# Altium integrated library National Semiconductor Switch Caps.IntLib: 108 symbols (part 3 of 3)
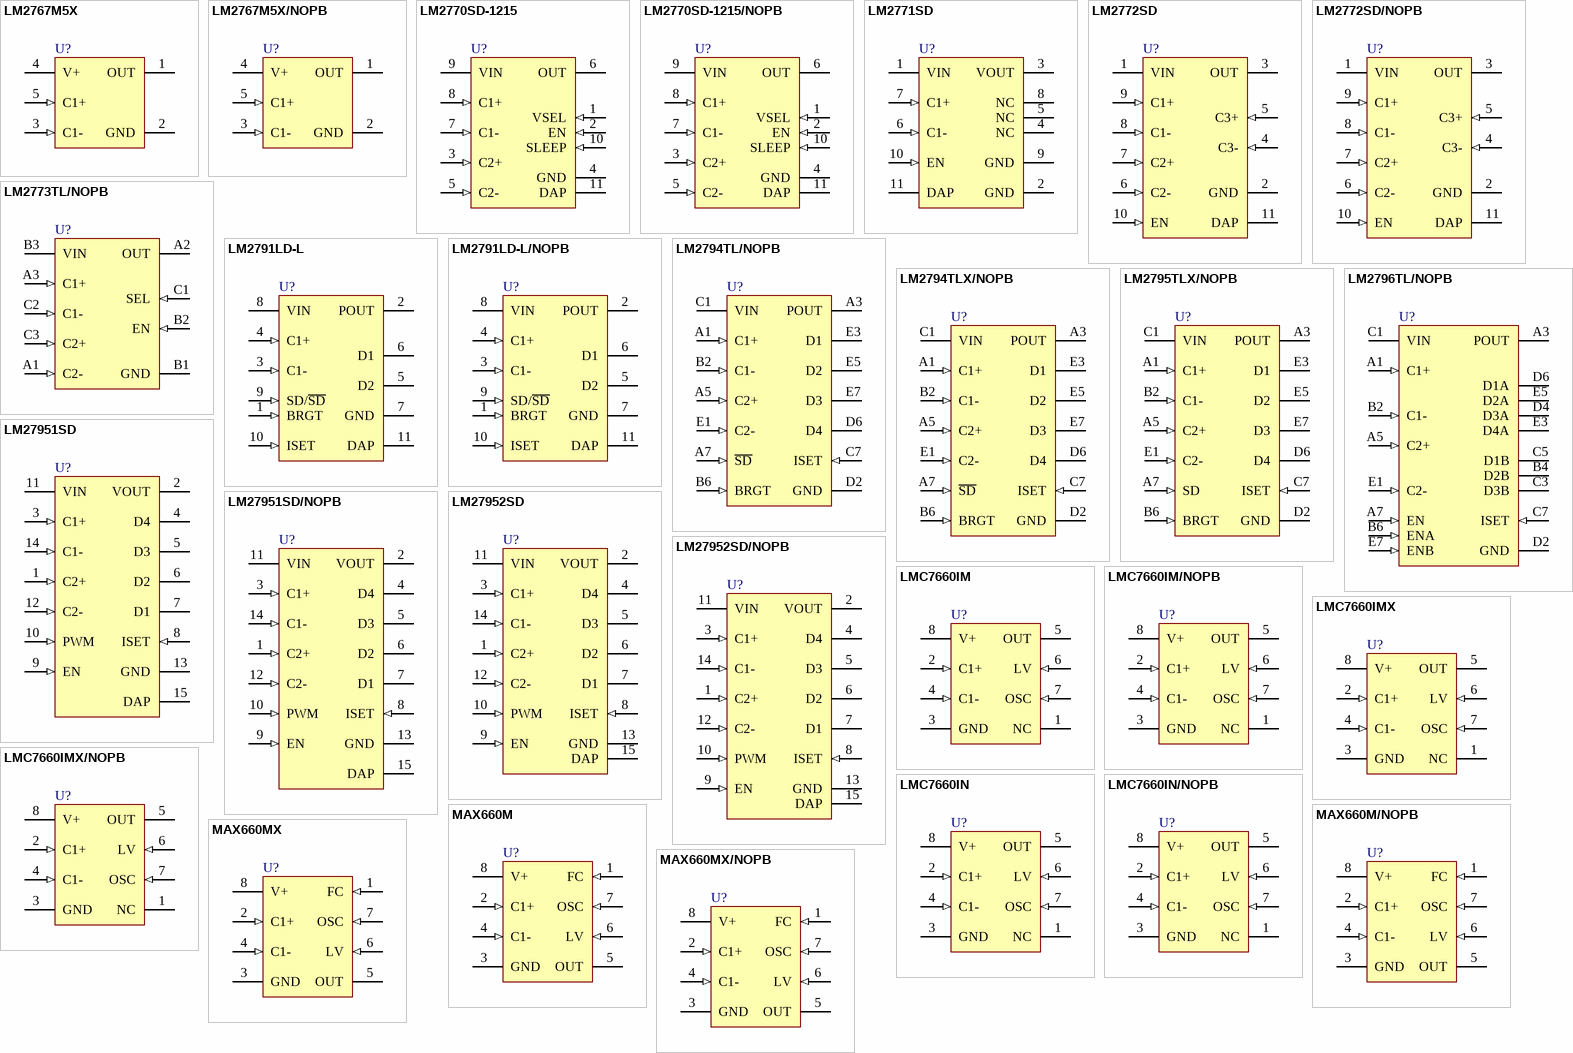
[diagram p4: symbols LM2767M5X to MAX660MX/NOPB]

## LM2767M5X/NOPB
designator U?
Switched Capacitor Voltage Converter, 5-pin SOT-23, Pb-Free; PartNumber: LM2767M5X/NOPB; Manufacturer: National Semiconductor; PackageTopMarking: S17B*XTT; PowerWise: N; CompType: Switch Caps; High-Reliability: Y; DatasheetVersion: Feb-2000; PackageVersion: revD, Aug-2008; PackageReference: MF05A; PackageDescription: Molded SOT-23, .115 x .063 x .040 in Body, 5 Lead, .0375 in Pitch; RoHS: Y; PinCount: 5; ComponentLink1Description: Manufacturer URL; ComponentLink1URL: http://www.national.com/; ComponentLink2Description: LM2767 Datasheet; ComponentLink2URL: http://www.national.com/ds/LM/LM2767.pdf; ComponentLink3Description: LM2767 Web Page; ComponentLink3URL: http://www.national.com/pf/LM/LM2767.html; ComponentLink4Description: MF05A Package Page; ComponentLink4URL: http://www.national.com/packaging/folders/mf05a.html
footprint MF05A_N (SOT23, 5-Leads, Body 2.9x1.6mm, Pitch 0.95mm, Lead Span 2.8mm, IPC Medium Density)
footprint MF05A_L (SOT23, 5-Leads, Body 2.9x1.6mm, Pitch 0.95mm, Lead Span 2.8mm, IPC High Density)
footprint MF05A_M (SOT23, 5-Leads, Body 2.9x1.6mm, Pitch 0.95mm, Lead Span 2.8mm, IPC Low Density)
pins: 1 OUT (power), 2 GND (power), 3 C1- (in), 4 V+ (power), 5 C1+ (in)

## LM2770SD-1215
designator U?
High Efficiency Switched Capacitor Step-Down DC/DC Regulator with Sleep Mode, 10-pin LLP; PartNumber: LM2770SD-1215; Manufacturer: National Semiconductor; PackageTopMarking: ZXYTT*L162B; PowerWise: N; CompType: Switch Caps; High-Reliability: Y; DatasheetVersion: Dec-2004; PackageVersion: revA, Oct-2003; PackageReference: SDA10A; PackageDescription: LLP, Plastic, Dual, 3 x 3 x 0.8mm Body, 10 Lead, 0.5mm Pitch, No Pullback; RoHS: N; PinCount: 10; ComponentLink1Description: Manufacturer URL; ComponentLink1URL: http://www.national.com/; ComponentLink2Description: LM2770 Datasheet; ComponentLink2URL: http://www.national.com/ds/LM/LM2770.pdf; ComponentLink3Description: LM2770 Web Page; ComponentLink3URL: http://www.national.com/pf/LM/LM2770.html; ComponentLink4Description: SDA10A Package Page; ComponentLink4URL: http://www.national.com/packaging/folders/sda10a.html
footprint SDA10A (SON, 10-Leads, Body 3x3 mm, Pitch 0.5mm, NSC Recommended)
pins: 1 VSEL (in), 2 EN (in), 3 C2+ (in), 4 GND (power), 5 C2- (in), 6 OUT (power), 7 C1- (in), 8 C1+ (in), 9 VIN (power), 10 SLEEP (in), 11 DAP (power)

## LM2770SD-1215/NOPB
designator U?
High Efficiency Switched Capacitor Step-Down DC/DC Regulator with Sleep Mode, 10-pin LLP, Pb-Free; PartNumber: LM2770SD-1215/NOPB; Manufacturer: National Semiconductor; PackageTopMarking: ZXYTT*L162B; PowerWise: N; CompType: Switch Caps; High-Reliability: Y; DatasheetVersion: Dec-2004; PackageVersion: revA, Oct-2003; PackageReference: SDA10A; PackageDescription: LLP, Plastic, Dual, 3 x 3 x 0.8mm Body, 10 Lead, 0.5mm Pitch, No Pullback; RoHS: Y; PinCount: 10; ComponentLink1Description: Manufacturer URL; ComponentLink1URL: http://www.national.com/; ComponentLink2Description: LM2770 Datasheet; ComponentLink2URL: http://www.national.com/ds/LM/LM2770.pdf; ComponentLink3Description: LM2770 Web Page; ComponentLink3URL: http://www.national.com/pf/LM/LM2770.html; ComponentLink4Description: SDA10A Package Page; ComponentLink4URL: http://www.national.com/packaging/folders/sda10a.html
footprint SDA10A (SON, 10-Leads, Body 3x3 mm, Pitch 0.5mm, NSC Recommended)
pins: 1 VSEL (in), 2 EN (in), 3 C2+ (in), 4 GND (power), 5 C2- (in), 6 OUT (power), 7 C1- (in), 8 C1+ (in), 9 VIN (power), 10 SLEEP (in), 11 DAP (power)

## LM2771SD
designator U?
Low-Ripple 250mA Switched Capacitor Step-Down DC/DC Converter, 10-pin LLP; PartNumber: LM2771SD; Manufacturer: National Semiconductor; PackageTopMarking: ZXYTT*L2771; PowerWise: N; CompType: Switch Caps; High-Reliability: Y; DatasheetVersion: Mar-2006; PackageVersion: revA, Oct-2003; PackageReference: SDA10A; PackageDescription: LLP, Plastic, Dual, 3 x 3 x 0.8mm Body, 10 Lead, 0.5mm Pitch, No Pullback; RoHS: N; PinCount: 10; ComponentLink1Description: Manufacturer URL; ComponentLink1URL: http://www.national.com/; ComponentLink2Description: LM2771 Datasheet; ComponentLink2URL: http://www.national.com/ds/LM/LM2771.pdf; ComponentLink3Description: LM2771 Web Page; ComponentLink3URL: http://www.national.com/pf/LM/LM2771.html; ComponentLink4Description: SDA10A Package Page; ComponentLink4URL: http://www.national.com/packaging/folders/sda10a.html
footprint SDA10A (SON, 10-Leads, Body 3x3 mm, Pitch 0.5mm, NSC Recommended)
pins: 1 VIN (power), 2 GND (power), 3 VOUT (power), 4 NC, 5 NC, 6 C1- (in), 7 C1+ (in), 8 NC, 9 GND (power), 10 EN (in), 11 DAP (power)

## LM2772SD
designator U?
Low-Ripple Switched Capacitor Step-Down Regulator, 10-pin LLP; PartNumber: LM2772SD; Manufacturer: National Semiconductor; PackageTopMarking: ZXYTT*L2772; PowerWise: N; CompType: Switch Caps; High-Reliability: Y; DatasheetVersion: Dec-2006; PackageVersion: revA, Oct-2003; PackageReference: SDA10A; PackageDescription: LLP, Plastic, Dual, 3 x 3 x 0.8mm Body, 10 Lead, 0.5mm Pitch, No Pullback; RoHS: N; PinCount: 10; ComponentLink1Description: Manufacturer URL; ComponentLink1URL: http://www.national.com/; ComponentLink2Description: LM2772 Datasheet; ComponentLink2URL: http://www.national.com/ds/LM/LM2772.pdf; ComponentLink3Description: LM2772 Web Page; ComponentLink3URL: http://www.national.com/pf/LM/LM2772.html; ComponentLink4Description: SDA10A Package Page; ComponentLink4URL: http://www.national.com/packaging/folders/sda10a.html
footprint SDA10A (SON, 10-Leads, Body 3x3 mm, Pitch 0.5mm, NSC Recommended)
pins: 1 VIN (power), 2 GND (power), 3 OUT (power), 4 C3- (in), 5 C3+ (in), 6 C2- (in), 7 C2+ (in), 8 C1- (in), 9 C1+ (in), 10 EN (in), 11 DAP (power)

## LM2772SD/NOPB
designator U?
Low-Ripple Switched Capacitor Step-Down Regulator, 10-pin LLP, Pb-Free; PartNumber: LM2772SD/NOPB; Manufacturer: National Semiconductor; PackageTopMarking: ZXYTT*L2772; PowerWise: N; CompType: Switch Caps; High-Reliability: Y; DatasheetVersion: Dec-2006; PackageVersion: revA, Oct-2003; PackageReference: SDA10A; PackageDescription: LLP, Plastic, Dual, 3 x 3 x 0.8mm Body, 10 Lead, 0.5mm Pitch, No Pullback; RoHS: Y; PinCount: 10; ComponentLink1Description: Manufacturer URL; ComponentLink1URL: http://www.national.com/; ComponentLink2Description: LM2772 Datasheet; ComponentLink2URL: http://www.national.com/ds/LM/LM2772.pdf; ComponentLink3Description: LM2772 Web Page; ComponentLink3URL: http://www.national.com/pf/LM/LM2772.html; ComponentLink4Description: SDA10A Package Page; ComponentLink4URL: http://www.national.com/packaging/folders/sda10a.html
footprint SDA10A (SON, 10-Leads, Body 3x3 mm, Pitch 0.5mm, NSC Recommended)
pins: 1 VIN (power), 2 GND (power), 3 OUT (power), 4 C3- (in), 5 C3+ (in), 6 C2- (in), 7 C2+ (in), 8 C1- (in), 9 C1+ (in), 10 EN (in), 11 DAP (power)

## LM2773TL/NOPB
designator U?
Low-Ripple 1.8V/1.6V Spread-Spectrum Switched Capacitor Step-Down Regulator, 9-pin Micro SMD, Pb-Free; PartNumber: LM2773TL/NOPB; Manufacturer: National Semiconductor; PackageTopMarking: XV*I DJ; PowerWise: N; CompType: Switch Caps; High-Reliability: Y; DatasheetVersion: Jan-2008; PackageVersion: revC, Jan-2004; PackageReference: TLA09ZZA; PackageDescription: Thin Micro SMD, 9 Bump (Large), 0.5mm Pitch; RoHS: Y; PinCount: 9; Code_JEDEC: MO-211-DD; ComponentLink1Description: Manufacturer URL; ComponentLink1URL: http://www.national.com/; ComponentLink2Description: LM2773 Datasheet; ComponentLink2URL: http://www.national.com/ds/LM/LM2773.pdf; ComponentLink3Description: LM2773 Web Page; ComponentLink3URL: http://www.national.com/pf/LM/LM2773.html; ComponentLink4Description: TLA09ZZA Package Page; ComponentLink4URL: http://www.national.com/packaging/folders/tla09zza.html
footprint TLA09ZZA (Micro SMD, 9-Leads, Body 1.47x1.47mm, Pitch 0.5mm, NSC Recommended)
pins: A1 C2- (in), A2 OUT (power), A3 C1+ (in), B1 GND (power), B2 EN (in), B3 VIN (power), C1 SEL (in), C2 C1- (in), C3 C2+ (in)

## LM2791LD-L
designator U?
Current Regulated Switched Capacitor LED Driver with Analog Brightness Control, 10-pin LLP; PartNumber: LM2791LD-L; Manufacturer: National Semiconductor; PackageTopMarking: ZXYTT*SNB; PowerWise: N; CompType: Switch Caps; High-Reliability: Y; DatasheetVersion: Jul-2002; PackageVersion: revB, Jan-2003; PackageReference: LDA10A; PackageDescription: LLP, Plastic, Dual, 3 x 3 x 0.75mm Body, 10 Lead, 0.5mm Pitch; RoHS: N; PinCount: 10; ComponentLink1Description: Manufacturer URL; ComponentLink1URL: http://www.national.com/; ComponentLink2Description: LM2791 Datasheet; ComponentLink2URL: http://www.national.com/ds/LM/LM2791.pdf; ComponentLink3Description: LM2791 Web Page; ComponentLink3URL: http://www.national.com/pf/LM/LM2791.html; ComponentLink4Description: LDA10A Package Page; ComponentLink4URL: http://www.national.com/packaging/folders/lda10a.html
footprint LDA10A (PSON, 10-Leads, Body 3x3mm, Pitch 0.5mm, NSC Recommended)
pins: 1 BRGT (in), 2 POUT (power), 3 C1- (in), 4 C1+ (in), 5 D2 (oc), 6 D1 (oc), 7 GND (power), 8 VIN (power), 9 SD/~{SD} (in), 10 ISET (in), 11 DAP (power)

## LM2791LD-L/NOPB
designator U?
Current Regulated Switched Capacitor LED Driver with Analog Brightness Control, 10-pin LLP, Pb-Free; PartNumber: LM2791LD-L/NOPB; Manufacturer: National Semiconductor; PackageTopMarking: ZXYTT*SNB; PowerWise: N; CompType: Switch Caps; High-Reliability: Y; DatasheetVersion: Jul-2002; PackageVersion: revB, Jan-2003; PackageReference: LDA10A; PackageDescription: LLP, Plastic, Dual, 3 x 3 x 0.75mm Body, 10 Lead, 0.5mm Pitch; RoHS: Y; PinCount: 10; ComponentLink1Description: Manufacturer URL; ComponentLink1URL: http://www.national.com/; ComponentLink2Description: LM2791 Datasheet; ComponentLink2URL: http://www.national.com/ds/LM/LM2791.pdf; ComponentLink3Description: LM2791 Web Page; ComponentLink3URL: http://www.national.com/pf/LM/LM2791.html; ComponentLink4Description: LDA10A Package Page; ComponentLink4URL: http://www.national.com/packaging/folders/lda10a.html
footprint LDA10A (PSON, 10-Leads, Body 3x3mm, Pitch 0.5mm, NSC Recommended)
pins: 1 BRGT (in), 2 POUT (power), 3 C1- (in), 4 C1+ (in), 5 D2 (oc), 6 D1 (oc), 7 GND (power), 8 VIN (power), 9 SD/~{SD} (in), 10 ISET (in), 11 DAP (power)

## LM2794TL/NOPB
designator U?
Current Regulated Switched Capacitor LED Supply with Analog and PWM Brightness Control, 14-pin Micro SMD, Pb-Free; PartNumber: LM2794TL/NOPB; Manufacturer: National Semiconductor; PackageTopMarking: XYTT*I LOG; PowerWise: N; CompType: Switch Caps; High-Reliability: Y; DatasheetVersion: Mar-2004; PackageVersion: revC, Mar-2004; PackageReference: TLP14EHA; PackageDescription: Thin Micro SMD, 14 Bump (Large), Peripheral, 0.5mm Pitch; RoHS: Y; PinCount: 14; ComponentLink1Description: Manufacturer URL; ComponentLink1URL: http://www.national.com/; ComponentLink2Description: LM2794 Datasheet; ComponentLink2URL: http://www.national.com/ds/LM/LM2794.pdf; ComponentLink3Description: LM2794 Web Page; ComponentLink3URL: http://www.national.com/pf/LM/LM2794.html; ComponentLink4Description: TLP14EHA Package Page; ComponentLink4URL: http://www.national.com/packaging/folders/tlp14eha.html
footprint TLP14EHA (Micro SMD, 14-Leads, Body 2.4x2.1mm, Pitch 0.5mm, NSC Recommended)
pins: A1 C1+ (in), A3 POUT (power), A5 C2+ (in), A7 ~{SD} (in), B2 C1- (in), B6 BRGT (in), C1 VIN (power), C7 ISET (in), D2 GND (power), D6 D4 (oc), E1 C2- (in), E3 D1 (oc), E5 D2 (oc), E7 D3 (oc)

## LM2794TLX/NOPB
designator U?
Current Regulated Switched Capacitor LED Supply with Analog and PWM Brightness Control, 14-pin Micro SMD, Pb-Free; PartNumber: LM2794TLX/NOPB; Manufacturer: National Semiconductor; PackageTopMarking: XYTT*I LOG; PowerWise: N; CompType: Switch Caps; High-Reliability: Y; DatasheetVersion: Mar-2004; PackageVersion: revC, Mar-2004; PackageReference: TLP14EHA; PackageDescription: Thin Micro SMD, 14 Bump (Large), Peripheral, 0.5mm Pitch; RoHS: Y; PinCount: 14; ComponentLink1Description: Manufacturer URL; ComponentLink1URL: http://www.national.com/; ComponentLink2Description: LM2794 Datasheet; ComponentLink2URL: http://www.national.com/ds/LM/LM2794.pdf; ComponentLink3Description: LM2794 Web Page; ComponentLink3URL: http://www.national.com/pf/LM/LM2794.html; ComponentLink4Description: TLP14EHA Package Page; ComponentLink4URL: http://www.national.com/packaging/folders/tlp14eha.html
footprint TLP14EHA (Micro SMD, 14-Leads, Body 2.4x2.1mm, Pitch 0.5mm, NSC Recommended)
pins: A1 C1+ (in), A3 POUT (power), A5 C2+ (in), A7 ~{SD} (in), B2 C1- (in), B6 BRGT (in), C1 VIN (power), C7 ISET (in), D2 GND (power), D6 D4 (oc), E1 C2- (in), E3 D1 (oc), E5 D2 (oc), E7 D3 (oc)

## LM2795TLX/NOPB
designator U?
Current Regulated Switched Capacitor LED Supply with Analog and PWM Brightness Control, 14-pin Micro SMD, Pb-Free; PartNumber: LM2795TLX/NOPB; Manufacturer: National Semiconductor; PackageTopMarking: XYTT*I LOJ; PowerWise: N; CompType: Switch Caps; High-Reliability: Y; DatasheetVersion: Mar-2004; PackageVersion: revC, Mar-2004; PackageReference: TLP14EHA; PackageDescription: Thin Micro SMD, 14 Bump (Large), Peripheral, 0.5mm Pitch; RoHS: Y; PinCount: 14; ComponentLink1Description: Manufacturer URL; ComponentLink1URL: http://www.national.com/; ComponentLink2Description: LM2795 Datasheet; ComponentLink2URL: http://www.national.com/ds/LM/LM2795.pdf; ComponentLink3Description: LM2795 Web Page; ComponentLink3URL: http://www.national.com/pf/LM/LM2795.html; ComponentLink4Description: TLP14EHA Package Page; ComponentLink4URL: http://www.national.com/packaging/folders/tlp14eha.html
footprint TLP14EHA (Micro SMD, 14-Leads, Body 2.4x2.1mm, Pitch 0.5mm, NSC Recommended)
pins: A1 C1+ (in), A3 POUT (power), A5 C2+ (in), A7 SD (in), B2 C1- (in), B6 BRGT (in), C1 VIN (power), C7 ISET (in), D2 GND (power), D6 D4 (oc), E1 C2- (in), E3 D1 (oc), E5 D2 (oc), E7 D3 (oc)

## LM2796TL/NOPB
designator U?
Dual-Display White LED Driver with 3/2x Switched Capacitor Boost, 18-pin Micro SMD, Pb-Free; PartNumber: LM2796TL/NOPB; Manufacturer: National Semiconductor; PackageTopMarking: XYTT*I SAJB; PowerWise: Y; CompType: Switch Caps; DatasheetVersion: Feb-2004; PackageVersion: revD, Jan-2005; PackageReference: TLA18EHA; PackageDescription: Thin Micro SMD, 18 Bump (Large), 0.5mm Pitch; RoHS: Y; PinCount: 18; High-Reliability: Y; ComponentLink1Description: Manufacturer URL; ComponentLink1URL: http://www.national.com/; ComponentLink2Description: LM2796 Datasheet; ComponentLink2URL: http://www.national.com/ds/LM/LM2796.pdf; ComponentLink3Description: LM2796 Web Page; ComponentLink3URL: http://www.national.com/pf/LM/LM2796.html; ComponentLink4Description: TLA18EHA Package Page; ComponentLink4URL: http://www.national.com/packaging/folders/tla18eha.html
footprint TLA18EHA (Micro SMD, 18-Leads, Body 2.4x2.1mm, Pitch 0.5mm, NSC Recommended)
pins: A1 C1+ (in), A3 POUT (power), A5 C2+ (in), A7 EN (in), B2 C1- (in), B4 D2B (oc), B6 ENA (in), C1 VIN (power), C3 D3B (oc), C5 D1B (oc), C7 ISET (in), D2 GND (power), D4 D3A (oc), D6 D1A (oc), E1 C2- (in), E3 D4A (oc), E5 D2A (oc), E7 ENB (in)

## LM27951SD
designator U?
White LED Adaptive 1.5X/1X Switched Capacitor Current Driver, 15-pin LLP; PartNumber: LM27951SD; Manufacturer: National Semiconductor; PackageTopMarking: ZXYTTE#*D006B; PowerWise: Y; CompType: Switch Caps; DatasheetVersion: Nov-2005; PackageVersion: revA, Jun-2003; PackageReference: SDA14A; PackageDescription: LLP, Plastic, Dual, 4 x 3 x 0.8mm Body, 14 Lead, 0.5mm Pitch, No Pullback; RoHS: N; PinCount: 14; High-Reliability: Y; ComponentLink1Description: Manufacturer URL; ComponentLink1URL: http://www.national.com/; ComponentLink2Description: LM27951 Datasheet; ComponentLink2URL: http://www.national.com/ds/LM/LM27951.pdf; ComponentLink3Description: LM27951 Web Page; ComponentLink3URL: http://www.national.com/pf/LM/LM27951.html; ComponentLink4Description: SDA14A Package Page; ComponentLink4URL: http://www.national.com/packaging/folders/sda14a.html
footprint SDA14A (SON, 14-Leads, Body 4x3mm, Pitch 0.5mm, NSC Recommended)
pins: 1 C2+ (in), 2 VOUT (power), 3 C1+ (in), 4 D4 (oc), 5 D3 (oc), 6 D2 (oc), 7 D1 (oc), 8 ISET (in), 9 EN (in), 10 PWM (in), 11 VIN (power), 12 C2- (in), 13 GND (power), 14 C1- (in), 15 DAP (power)

## LM27951SD/NOPB
designator U?
White LED Adaptive 1.5X/1X Switched Capacitor Current Driver, 14-pin LLP, Pb-Free; PartNumber: LM27951SD/NOPB; Manufacturer: National Semiconductor; PackageTopMarking: ZXYTTE#*D006B; PowerWise: Y; CompType: Switch Caps; DatasheetVersion: Nov-2005; PackageVersion: revA, Jun-2003; PackageReference: SDA14A; PackageDescription: LLP, Plastic, Dual, 4 x 3 x 0.8mm Body, 14 Lead, 0.5mm Pitch, No Pullback; RoHS: Y; PinCount: 14; High-Reliability: Y; ComponentLink1Description: Manufacturer URL; ComponentLink1URL: http://www.national.com/; ComponentLink2Description: LM27951 Datasheet; ComponentLink2URL: http://www.national.com/ds/LM/LM27951.pdf; ComponentLink3Description: LM27951 Web Page; ComponentLink3URL: http://www.national.com/pf/LM/LM27951.html; ComponentLink4Description: SDA14A Package Page; ComponentLink4URL: http://www.national.com/packaging/folders/sda14a.html
footprint SDA14A (SON, 14-Leads, Body 4x3mm, Pitch 0.5mm, NSC Recommended)
pins: 1 C2+ (in), 2 VOUT (power), 3 C1+ (in), 4 D4 (oc), 5 D3 (oc), 6 D2 (oc), 7 D1 (oc), 8 ISET (in), 9 EN (in), 10 PWM (in), 11 VIN (power), 12 C2- (in), 13 GND (power), 14 C1- (in), 15 DAP (power)

## LM27952SD
designator U?
White LED Adaptive 1.5X/1X Switched Capacitor Current Driver, 15-pin LLP; PartNumber: LM27952SD; Manufacturer: National Semiconductor; PackageTopMarking: ZXYTTE#*D005B; PowerWise: Y; CompType: Switch Caps; DatasheetVersion: Aug-2005; PackageVersion: revA, Jun-2003; PackageReference: SDA14A; PackageDescription: LLP, Plastic, Dual, 4 x 3 x 0.8mm Body, 14 Lead, 0.5mm Pitch, No Pullback; RoHS: N; PinCount: 14; High-Reliability: Y; ComponentLink1Description: Manufacturer URL; ComponentLink1URL: http://www.national.com/; ComponentLink2Description: LM27952 Datasheet; ComponentLink2URL: http://www.national.com/ds/LM/LM27952.pdf; ComponentLink3Description: LM27952 Web Page; ComponentLink3URL: http://www.national.com/pf/LM/LM27952.html; ComponentLink4Description: SDA14A Package Page; ComponentLink4URL: http://www.national.com/packaging/folders/sda14a.html
footprint SDA14A (SON, 14-Leads, Body 4x3mm, Pitch 0.5mm, NSC Recommended)
pins: 1 C2+ (in), 2 VOUT (power), 3 C1+ (in), 4 D4 (oc), 5 D3 (oc), 6 D2 (oc), 7 D1 (oc), 8 ISET (in), 9 EN (in), 10 PWM (in), 11 VIN (power), 12 C2- (in), 13 GND (power), 14 C1- (in), 15 DAP (power)

## LM27952SD/NOPB
designator U?
White LED Adaptive 1.5X/1X Switched Capacitor Current Driver, 14-pin LLP, Pb-Free; PartNumber: LM27952SD/NOPB; Manufacturer: National Semiconductor; PackageTopMarking: ZXYTTE#*D005B; PowerWise: Y; CompType: Switch Caps; DatasheetVersion: Aug-2005; PackageVersion: revA, Jun-2003; PackageReference: SDA14A; PackageDescription: LLP, Plastic, Dual, 4 x 3 x 0.8mm Body, 14 Lead, 0.5mm Pitch, No Pullback; RoHS: Y; PinCount: 14; High-Reliability: Y; ComponentLink1Description: Manufacturer URL; ComponentLink1URL: http://www.national.com/; ComponentLink2Description: LM27952 Datasheet; ComponentLink2URL: http://www.national.com/ds/LM/LM27952.pdf; ComponentLink3Description: LM27952 Web Page; ComponentLink3URL: http://www.national.com/pf/LM/LM27952.html; ComponentLink4Description: SDA14A Package Page; ComponentLink4URL: http://www.national.com/packaging/folders/sda14a.html
footprint SDA14A (SON, 14-Leads, Body 4x3mm, Pitch 0.5mm, NSC Recommended)
pins: 1 C2+ (in), 2 VOUT (power), 3 C1+ (in), 4 D4 (oc), 5 D3 (oc), 6 D2 (oc), 7 D1 (oc), 8 ISET (in), 9 EN (in), 10 PWM (in), 11 VIN (power), 12 C2- (in), 13 GND (power), 14 C1- (in), 15 DAP (power)

## LMC7660IM
designator U?
Switched Capacitor Voltage Converter, 8-pin Narrow SOIC; PartNumber: LMC7660IM; Manufacturer: National Semiconductor; PackageTopMarking: NSZXTT*LMC76*60IM; PowerWise: N; CompType: Switch Caps; High-Reliability: Y; DatasheetVersion: Feb-2005; PackageVersion: revM, May-2009; PackageReference: M08A; PackageDescription: SOIC Narrow, 4.9 x 3.9 x 1.45mm, 8 Lead, 1.27mm Pitch; RoHS: N; PinCount: 8; Code_JEDEC: MS-012-AA; Code_IPC: SOIC127P600-8; ComponentLink1Description: Manufacturer URL; ComponentLink1URL: http://www.national.com/; ComponentLink2Description: LMC7660 Datasheet; ComponentLink2URL: http://www.national.com/ds/LM/LMC7660.pdf; ComponentLink3Description: LMC7660 Web Page; ComponentLink3URL: http://www.national.com/pf/LM/LMC7660.html; ComponentLink4Description: M08A Package Page; ComponentLink4URL: http://www.national.com/packaging/folders/m08a.html
footprint M08A_N (SOIC, 8-Leads, Body 4.9x3.9mm, Pitch 1.27mm, IPC Medium Density)
footprint M08A_L (SOIC, 8-Leads, Body 4.9x3.9mm, Pitch 1.27mm, IPC High Density)
footprint M08A_M (SOIC, 8-Leads, Body 4.9x3.9mm, Pitch 1.27mm, IPC Low Density)
pins: 1 NC, 2 C1+ (in), 3 GND (power), 4 C1- (in), 5 OUT (power), 6 LV (in), 7 OSC (in), 8 V+ (power)

## LMC7660IM/NOPB
designator U?
Switched Capacitor Voltage Converter, 8-pin Narrow SOIC, Pb-Free; PartNumber: LMC7660IM/NOPB; Manufacturer: National Semiconductor; PackageTopMarking: NSZXTT*LMC76*60IM; PowerWise: N; CompType: Switch Caps; High-Reliability: Y; DatasheetVersion: Feb-2005; PackageVersion: revM, May-2009; PackageReference: M08A; PackageDescription: SOIC Narrow, 4.9 x 3.9 x 1.45mm, 8 Lead, 1.27mm Pitch; RoHS: Y; PinCount: 8; Code_JEDEC: MS-012-AA; Code_IPC: SOIC127P600-8; ComponentLink1Description: Manufacturer URL; ComponentLink1URL: http://www.national.com/; ComponentLink2Description: LMC7660 Datasheet; ComponentLink2URL: http://www.national.com/ds/LM/LMC7660.pdf; ComponentLink3Description: LMC7660 Web Page; ComponentLink3URL: http://www.national.com/pf/LM/LMC7660.html; ComponentLink4Description: M08A Package Page; ComponentLink4URL: http://www.national.com/packaging/folders/m08a.html
footprint M08A_N (SOIC, 8-Leads, Body 4.9x3.9mm, Pitch 1.27mm, IPC Medium Density)
footprint M08A_L (SOIC, 8-Leads, Body 4.9x3.9mm, Pitch 1.27mm, IPC High Density)
footprint M08A_M (SOIC, 8-Leads, Body 4.9x3.9mm, Pitch 1.27mm, IPC Low Density)
pins: 1 NC, 2 C1+ (in), 3 GND (power), 4 C1- (in), 5 OUT (power), 6 LV (in), 7 OSC (in), 8 V+ (power)

## LMC7660IMX
designator U?
Switched Capacitor Voltage Converter, 8-pin Narrow SOIC; PartNumber: LMC7660IMX; Manufacturer: National Semiconductor; PackageTopMarking: NSZXTT*LMC76*60IM; PowerWise: N; CompType: Switch Caps; High-Reliability: Y; DatasheetVersion: Feb-2005; PackageVersion: revM, May-2009; PackageReference: M08A; PackageDescription: SOIC Narrow, 4.9 x 3.9 x 1.45mm, 8 Lead, 1.27mm Pitch; RoHS: N; PinCount: 8; Code_JEDEC: MS-012-AA; Code_IPC: SOIC127P600-8; ComponentLink1Description: Manufacturer URL; ComponentLink1URL: http://www.national.com/; ComponentLink2Description: LMC7660 Datasheet; ComponentLink2URL: http://www.national.com/ds/LM/LMC7660.pdf; ComponentLink3Description: LMC7660 Web Page; ComponentLink3URL: http://www.national.com/pf/LM/LMC7660.html; ComponentLink4Description: M08A Package Page; ComponentLink4URL: http://www.national.com/packaging/folders/m08a.html
footprint M08A_N (SOIC, 8-Leads, Body 4.9x3.9mm, Pitch 1.27mm, IPC Medium Density)
footprint M08A_L (SOIC, 8-Leads, Body 4.9x3.9mm, Pitch 1.27mm, IPC High Density)
footprint M08A_M (SOIC, 8-Leads, Body 4.9x3.9mm, Pitch 1.27mm, IPC Low Density)
pins: 1 NC, 2 C1+ (in), 3 GND (power), 4 C1- (in), 5 OUT (power), 6 LV (in), 7 OSC (in), 8 V+ (power)

## LMC7660IMX/NOPB
designator U?
Switched Capacitor Voltage Converter, 8-pin Narrow SOIC, Pb-Free; PartNumber: LMC7660IMX/NOPB; Manufacturer: National Semiconductor; PackageTopMarking: NSZXTT*LMC76*60IM; PowerWise: N; CompType: Switch Caps; High-Reliability: Y; DatasheetVersion: Feb-2005; PackageVersion: revM, May-2009; PackageReference: M08A; PackageDescription: SOIC Narrow, 4.9 x 3.9 x 1.45mm, 8 Lead, 1.27mm Pitch; RoHS: Y; PinCount: 8; Code_JEDEC: MS-012-AA; Code_IPC: SOIC127P600-8; ComponentLink1Description: Manufacturer URL; ComponentLink1URL: http://www.national.com/; ComponentLink2Description: LMC7660 Datasheet; ComponentLink2URL: http://www.national.com/ds/LM/LMC7660.pdf; ComponentLink3Description: LMC7660 Web Page; ComponentLink3URL: http://www.national.com/pf/LM/LMC7660.html; ComponentLink4Description: M08A Package Page; ComponentLink4URL: http://www.national.com/packaging/folders/m08a.html
footprint M08A_N (SOIC, 8-Leads, Body 4.9x3.9mm, Pitch 1.27mm, IPC Medium Density)
footprint M08A_L (SOIC, 8-Leads, Body 4.9x3.9mm, Pitch 1.27mm, IPC High Density)
footprint M08A_M (SOIC, 8-Leads, Body 4.9x3.9mm, Pitch 1.27mm, IPC Low Density)
pins: 1 NC, 2 C1+ (in), 3 GND (power), 4 C1- (in), 5 OUT (power), 6 LV (in), 7 OSC (in), 8 V+ (power)

## LMC7660IN
designator U?
Switched Capacitor Voltage Converter, 8-pin MDIP; PartNumber: LMC7660IN; Manufacturer: National Semiconductor; PackageTopMarking: NSUZXYTTE#*LMC*7660IN; PowerWise: N; CompType: Switch Caps; High-Reliability: Y; DatasheetVersion: Feb-2005; PackageVersion: revG, May-2006; PackageReference: N08E; PackageDescription: MDIP, .365 x .250 x .130in, 8 Lead, .100in Pitch; RoHS: N; PinCount: 8; Code_JEDEC: MS-001-BA; ComponentLink1Description: Manufacturer URL; ComponentLink1URL: http://www.national.com/; ComponentLink2Description: LMC7660 Datasheet; ComponentLink2URL: http://www.national.com/ds/LM/LMC7660.pdf; ComponentLink3Description: LMC7660 Web Page; ComponentLink3URL: http://www.national.com/pf/LM/LMC7660.html; ComponentLink4Description: N08E Package Page; ComponentLink4URL: http://www.national.com/packaging/folders/n08e.html
footprint N08E (DIP, 8-Leads, Row Spacing 7.62mm, Pitch 2.54mm, Body 9.91x6.35mm)
pins: 1 NC, 2 C1+ (in), 3 GND (power), 4 C1- (in), 5 OUT (power), 6 LV (in), 7 OSC (in), 8 V+ (power)

## LMC7660IN/NOPB
designator U?
Switched Capacitor Voltage Converter, 8-pin MDIP, Pb-Free; PartNumber: LMC7660IN/NOPB; Manufacturer: National Semiconductor; PackageTopMarking: NSUZXYTTE#*LMC*7660IN; PowerWise: N; CompType: Switch Caps; High-Reliability: Y; DatasheetVersion: Feb-2005; PackageVersion: revG, May-2006; PackageReference: N08E; PackageDescription: MDIP, .365 x .250 x .130in, 8 Lead, .100in Pitch; RoHS: Y; PinCount: 8; Code_JEDEC: MS-001-BA; ComponentLink1Description: Manufacturer URL; ComponentLink1URL: http://www.national.com/; ComponentLink2Description: LMC7660 Datasheet; ComponentLink2URL: http://www.national.com/ds/LM/LMC7660.pdf; ComponentLink3Description: LMC7660 Web Page; ComponentLink3URL: http://www.national.com/pf/LM/LMC7660.html; ComponentLink4Description: N08E Package Page; ComponentLink4URL: http://www.national.com/packaging/folders/n08e.html
footprint N08E (DIP, 8-Leads, Row Spacing 7.62mm, Pitch 2.54mm, Body 9.91x6.35mm)
pins: 1 NC, 2 C1+ (in), 3 GND (power), 4 C1- (in), 5 OUT (power), 6 LV (in), 7 OSC (in), 8 V+ (power)

## MAX660M
designator U?
Switched Capacitor Voltage Converter, 8-pin Narrow SOIC; PartNumber: MAX660M; Manufacturer: National Semiconductor; PackageTopMarking: NSZXTT*MAX*660M; PowerWise: N; CompType: Switch Caps; High-Reliability: Y; DatasheetVersion: Nov-1999; PackageVersion: revM, May-2009; PackageReference: M08A; PackageDescription: SOIC Narrow, 4.9 x 3.9 x 1.45mm, 8 Lead, 1.27mm Pitch; RoHS: N; PinCount: 8; Code_JEDEC: MS-012-AA; Code_IPC: SOIC127P600-8; ComponentLink1Description: Manufacturer URL; ComponentLink1URL: http://www.national.com/; ComponentLink2Description: MAX660 Datasheet; ComponentLink2URL: http://www.national.com/ds/MA/MAX660.pdf; ComponentLink3Description: MAX660 Web Page; ComponentLink3URL: http://www.national.com/pf/MA/MAX660.html; ComponentLink4Description: M08A Package Page; ComponentLink4URL: http://www.national.com/packaging/folders/m08a.html
footprint M08A_N (SOIC, 8-Leads, Body 4.9x3.9mm, Pitch 1.27mm, IPC Medium Density)
footprint M08A_L (SOIC, 8-Leads, Body 4.9x3.9mm, Pitch 1.27mm, IPC High Density)
footprint M08A_M (SOIC, 8-Leads, Body 4.9x3.9mm, Pitch 1.27mm, IPC Low Density)
pins: 1 FC (in), 2 C1+ (in), 3 GND (power), 4 C1- (in), 5 OUT (power), 6 LV (in), 7 OSC (in), 8 V+ (power)

## MAX660M/NOPB
designator U?
Switched Capacitor Voltage Converter, 8-pin Narrow SOIC, Pb-Free; PartNumber: MAX660M/NOPB; Manufacturer: National Semiconductor; PackageTopMarking: NSZXTT*MAX*660M; PowerWise: N; CompType: Switch Caps; High-Reliability: Y; DatasheetVersion: Nov-1999; PackageVersion: revM, May-2009; PackageReference: M08A; PackageDescription: SOIC Narrow, 4.9 x 3.9 x 1.45mm, 8 Lead, 1.27mm Pitch; RoHS: Y; PinCount: 8; Code_JEDEC: MS-012-AA; Code_IPC: SOIC127P600-8; ComponentLink1Description: Manufacturer URL; ComponentLink1URL: http://www.national.com/; ComponentLink2Description: MAX660 Datasheet; ComponentLink2URL: http://www.national.com/ds/MA/MAX660.pdf; ComponentLink3Description: MAX660 Web Page; ComponentLink3URL: http://www.national.com/pf/MA/MAX660.html; ComponentLink4Description: M08A Package Page; ComponentLink4URL: http://www.national.com/packaging/folders/m08a.html
footprint M08A_N (SOIC, 8-Leads, Body 4.9x3.9mm, Pitch 1.27mm, IPC Medium Density)
footprint M08A_L (SOIC, 8-Leads, Body 4.9x3.9mm, Pitch 1.27mm, IPC High Density)
footprint M08A_M (SOIC, 8-Leads, Body 4.9x3.9mm, Pitch 1.27mm, IPC Low Density)
pins: 1 FC (in), 2 C1+ (in), 3 GND (power), 4 C1- (in), 5 OUT (power), 6 LV (in), 7 OSC (in), 8 V+ (power)

## MAX660MX
designator U?
Switched Capacitor Voltage Converter, 8-pin Narrow SOIC; PartNumber: MAX660MX; Manufacturer: National Semiconductor; PackageTopMarking: NSZXTT*MAX*660M; PowerWise: N; CompType: Switch Caps; High-Reliability: Y; DatasheetVersion: Nov-1999; PackageVersion: revM, May-2009; PackageReference: M08A; PackageDescription: SOIC Narrow, 4.9 x 3.9 x 1.45mm, 8 Lead, 1.27mm Pitch; RoHS: N; PinCount: 8; Code_JEDEC: MS-012-AA; Code_IPC: SOIC127P600-8; ComponentLink1Description: Manufacturer URL; ComponentLink1URL: http://www.national.com/; ComponentLink2Description: MAX660 Datasheet; ComponentLink2URL: http://www.national.com/ds/MA/MAX660.pdf; ComponentLink3Description: MAX660 Web Page; ComponentLink3URL: http://www.national.com/pf/MA/MAX660.html; ComponentLink4Description: M08A Package Page; ComponentLink4URL: http://www.national.com/packaging/folders/m08a.html
footprint M08A_N (SOIC, 8-Leads, Body 4.9x3.9mm, Pitch 1.27mm, IPC Medium Density)
footprint M08A_L (SOIC, 8-Leads, Body 4.9x3.9mm, Pitch 1.27mm, IPC High Density)
footprint M08A_M (SOIC, 8-Leads, Body 4.9x3.9mm, Pitch 1.27mm, IPC Low Density)
pins: 1 FC (in), 2 C1+ (in), 3 GND (power), 4 C1- (in), 5 OUT (power), 6 LV (in), 7 OSC (in), 8 V+ (power)

## MAX660MX/NOPB
designator U?
Switched Capacitor Voltage Converter, 8-pin Narrow SOIC, Pb-Free; PartNumber: MAX660MX/NOPB; Manufacturer: National Semiconductor; PackageTopMarking: NSZXTT*MAX*660M; PowerWise: N; CompType: Switch Caps; High-Reliability: Y; DatasheetVersion: Nov-1999; PackageVersion: revM, May-2009; PackageReference: M08A; PackageDescription: SOIC Narrow, 4.9 x 3.9 x 1.45mm, 8 Lead, 1.27mm Pitch; RoHS: Y; PinCount: 8; Code_JEDEC: MS-012-AA; Code_IPC: SOIC127P600-8; ComponentLink1Description: Manufacturer URL; ComponentLink1URL: http://www.national.com/; ComponentLink2Description: MAX660 Datasheet; ComponentLink2URL: http://www.national.com/ds/MA/MAX660.pdf; ComponentLink3Description: MAX660 Web Page; ComponentLink3URL: http://www.national.com/pf/MA/MAX660.html; ComponentLink4Description: M08A Package Page; ComponentLink4URL: http://www.national.com/packaging/folders/m08a.html
footprint M08A_N (SOIC, 8-Leads, Body 4.9x3.9mm, Pitch 1.27mm, IPC Medium Density)
footprint M08A_L (SOIC, 8-Leads, Body 4.9x3.9mm, Pitch 1.27mm, IPC High Density)
footprint M08A_M (SOIC, 8-Leads, Body 4.9x3.9mm, Pitch 1.27mm, IPC Low Density)
pins: 1 FC (in), 2 C1+ (in), 3 GND (power), 4 C1- (in), 5 OUT (power), 6 LV (in), 7 OSC (in), 8 V+ (power)